# Altium schematic symbol library 2165712002.SchLib: 1 symbol
Pins are listed as number, name and electrical type; pins without a type are passive.

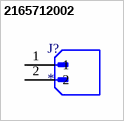
[diagram p0: symbol 2165712002]

## 2165712002
designator J?
Conn Wire to Board HDR 2 POS 3mm Solder ST Top Entry Thru-Hole Tray; MF: Molex; MP: 2165712002; Value: *; Check_prices: https://www.snapeda.com/parts/2165712002/Molex/view-part/?ref=eda; SnapEDA_Link: https://www.snapeda.com/parts/2165712002/Molex/view-part/?ref=snap; Availability: In Stock; Package: None; Purchase-URL: https://pricing.snapeda.com/search/part/2165712002/?ref=eda; Price: None
footprint MOLEX_2165712002
pins: 1, 2